# Altium footprint library eSurf_handle.PcbLib: 57 footprints (part 2 of 4)
Each footprint in its own frame and in the unit in brackets; x right, y up, seen from the top. Pads: shape width x height; smd on the part's side, far side on the other; paste and mask are expansions set on the pad; w line width, h text height; cw(c..) or ccw(c..) is an arc to the next point about the centre after c.
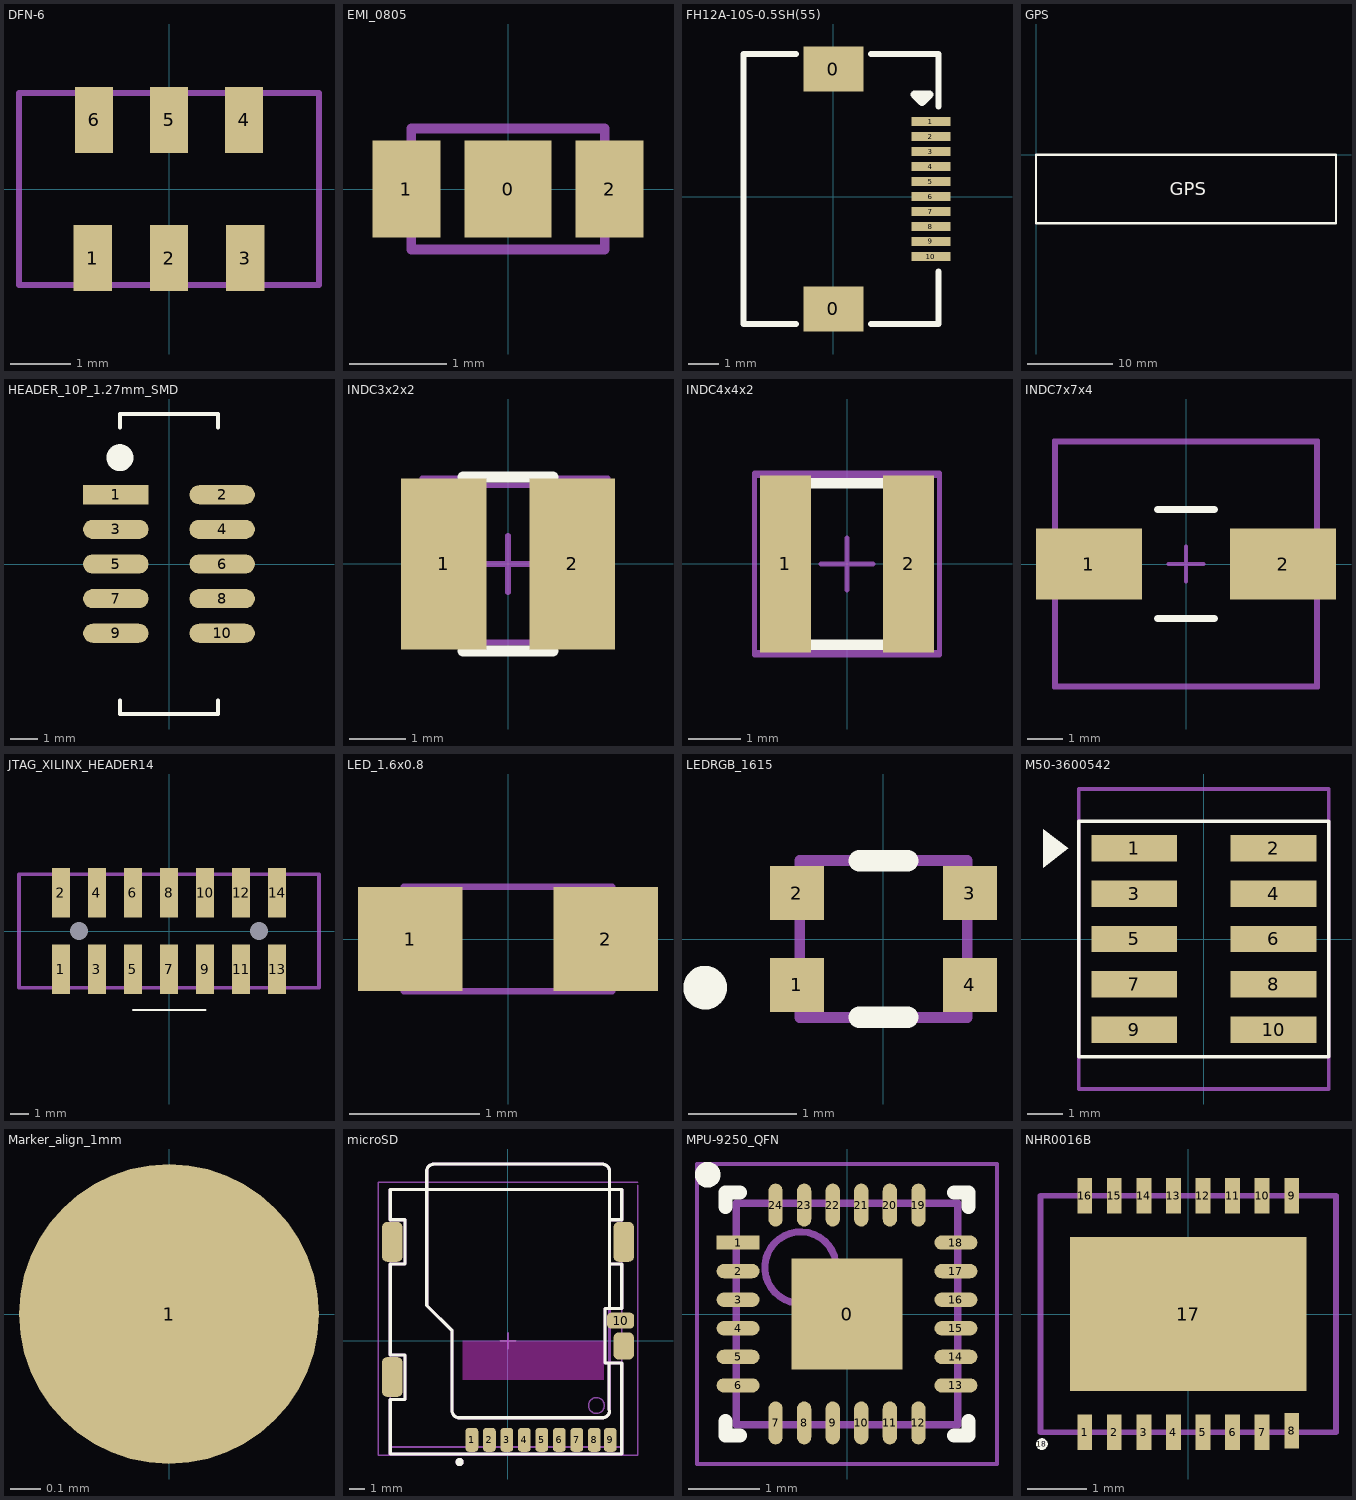
[diagram p1: the footprints below, top view; thin cyan lines are the x and y axes]

## DFN-6 [mm]
pads (6):
  rect 0.64x1.1 smd: 1(-1.27,-1.15) 2(0,-1.15) 3(1.27,-1.15) 4(1.25,1.15) 5(0,1.15) 6(-1.25,1.15)
Mechanical 15:
  lines w0.1: -2.5,-1.6 -2.5,1.6 2.5,1.6 2.5,-1.6 -2.5,-1.6
3D body: height 0.85, standoff 0, extent -2.499,-1.599 2.499,1.599

## EMI_0805 [mm]
height 0.85
pads (3):
  rect 0.9x1 smd: 0(0,0)
  rect 0.7x1 smd: 1(-1.05,0) 2(1.05,0)
Mechanical 15:
  lines w0.1: -1,-0.625 1,-0.625 1,0.625 -1,0.625 -1,-0.625
3D body: height 0.8, standoff 0, extent -1,-0.625 1,0.625

## FH12A-10S-0.5SH(55) [mm] "Connectors FFC & FPC 0.5MM 10 POS R/A TOP SMT GLD"
pads (12):
  rect 2x1.5 smd: 0(0,-3.75) 0(0,4.25)
  rect 1.3x0.3 smd: 1(3.25,2.5) 2(3.25,2) 3(3.25,1.5) 4(3.25,1) 5(3.25,0.5) 6(3.25,0) 7(3.25,-0.5) 8(3.25,-1) 9(3.25,-1.5) 10(3.25,-2)
Top Overlay:
  lines w0.2: -1.25,-4.25 -3,-4.25 -3,4.75 -1.25,4.75 ; 1.25,-4.25 3.5,-4.25 3.5,-2.5 ; 1.25,4.75 3.5,4.75 3.5,3
  lines w0.254: 2.7,3.4 3.2,3.4 ; 2.7,3.4 3.2,3.4 ; 2.7,3.4 2.95,3.15 3.2,3.4
3D body "FH12-10S-0.5SH.stp": height 2.09, standoff -0.01, extent -3,-4.3 3.4,4.8

## GPS [mm]
Top Overlay:
  lines w0.254: 0,-8 35,-8 35,0 0,0 0,-8
  text "GPS" at 15.6,-4.7 h1.52

## HEADER_10P_1.27mm_SMD [mm]
pads (10):
  rect 2.4x0.7 smd: 1(-1.95,2.54)
  oval 2.4x0.7 smd: 2(1.95,2.54) 3(-1.95,1.27) 4(1.95,1.27) 5(-1.95,0) 6(1.95,0) 7(-1.95,-1.27) 8(1.95,-1.27) 9(-1.95,-2.54) 10(1.95,-2.54)
Top Overlay:
  circle w0.7: c-1.8,3.9 r0.141
  lines w0.15: -1.8,-5 -1.8,-5.5 1.8,-5.5 1.8,-5 ; -1.8,5 -1.8,5.5 1.8,5.5 1.8,5
3D body "m50-3600542_asm.stp": height 4.68, standoff 0, extent -2.7,-3.175 2.8,3.175

## INDC3x2x2 [mm] "Chip Inductor, Body 4.5x3.2mm, IPC High Density"
height 2
pads (2):
  rect 1.52x3.05 smd: 1(-1.145,0) 2(1.145,0)
Top Overlay:
  lines w0.2: -0.8,-1.55 0.8,-1.55 ; -0.8,1.55 0.8,1.55
Mechanical 13:
  lines w0.1: -1.524,-1.397 -1.524,1.524 1.778,1.524 1.778,-1.397 -1.524,-1.397
Mechanical 15:
  lines w0.1: -0.5,0 0.5,0 ; 0,-0.5 0,0.5 ; -1.6,-1.4 -1.6,1.4 1.6,1.4 1.6,-1.4 -1.6,-1.4
3D body: height 2, standoff 0, extent -1.6,-1.4 1.6,1.4

## INDC4x4x2 [mm] "Chip Inductor, Body 4.5x3.2mm, IPC High Density"
height 2
pads (2):
  rect 0.98x3.4 smd: 1(-1.185,0) 2(1.185,0)
Top Overlay:
  lines w0.2: -0.8,-1.55 0.8,-1.55 ; -0.8,1.55 0.8,1.55
Mechanical 13:
  lines w0.1: -1.778,-1.7 -1.778,1.7 1.778,1.7 1.778,-1.7 -1.778,-1.7
Mechanical 15:
  lines w0.1: -0.5,0 0.5,0 ; 0,-0.5 0,0.5 ; -1.778,-1.75 -1.778,1.75 1.778,1.75 1.778,-1.75 -1.778,-1.75
3D body: height 0.55, standoff 0, extent -1.778,-1.7 1.778,1.7

## INDC7x7x4 [mm] "Chip Inductor, Body 4.5x3.2mm, IPC High Density"
height 4
pads (2):
  rect 3x2 smd: 1(-2.75,0) 2(2.75,0)
Top Overlay:
  lines w0.2: -0.8,-1.55 0.8,-1.55 ; -0.8,1.55 0.8,1.55
Mechanical 13:
  lines w0.1: -3.683,-3.429 3.683,-3.429 3.683,3.429 -3.683,3.429 -3.683,-3.429
Mechanical 15:
  lines w0.1: -0.5,0 0.5,0 ; 0,-0.5 0,0.5 ; -3.75,-3.5 3.75,-3.5 3.75,3.5 -3.75,3.5 -3.75,-3.5
3D body: height 0.55, standoff 0, extent -3.75,-3.5 3.75,3.5

## JTAG_XILINX_HEADER14 [mm]
pads (16):
  rect 1x2.75 smd: 1(-6,-2.125) 2(-6,2.125) 3(-4,-2.125) 4(-4,2.125) 5(-2,-2.125) 6(-2,2.125) 7(0,-2.125) 8(0,2.125) 9(2,-2.125) 10(2,2.125) 11(4,-2.125) 12(4,2.125) 13(6,-2.125) 14(6,2.125)
  round 0 hole 1: H1(-5,0) H2(5,0)
Top Overlay:
  lines w0.1: -2,-4.375 2.025,-4.375
Mechanical 15:
  lines w0.2: -8.325,-3.15 8.325,-3.15 8.325,3.15 -8.325,3.15 -8.325,-3.15
3D body: height 6.4, standoff 0, extent -8.325,-3.15 8.325,3.15

## LED_1.6x0.8 [mm]
pads (2):
  rect 0.8x0.8 smd: 1(-0.75,0) 2(0.75,0)
Mechanical 15:
  lines w0.05: -0.8,-0.4 0.8,-0.4 0.8,0.4 -0.8,0.4 -0.8,-0.4
3D body: height 0.6, standoff 0, extent -0.8,-0.4 0.8,0.4

## LEDRGB_1615 [mm] "SOIC, 4-Leads, Body 1.6x1.7mm (max), Pitch 1.27mm, IPC Medium Density"
height 0.6
pads (4):
  rect 0.5x0.5 smd mask+0.01: 1(-0.8,-0.425) 2(-0.8,0.425) 3(0.8,0.425) 4(0.8,-0.425)
Top Overlay:
  circle w0.254: c-1.65,-0.45 r0.075
  lines w0.2: -0.225,-0.725 0.225,-0.725 ; -0.225,0.725 0.225,0.725
Mechanical 13:
  lines w0.1: -0.775,-0.725 -0.775,0.725 0.775,0.725 0.775,-0.725 -0.775,-0.725
3D body: height 0.5, standoff 0.17, extent -0.825,-0.75 0.825,0.75

## M50-3600542 [mm]
pads (10):
  rect 2.4x0.74 smd: 1(-1.95,2.54) 2(1.95,2.54) 3(-1.95,1.27) 4(1.95,1.27) 5(-1.95,0) 6(1.95,0) 7(-1.95,-1.27) 8(1.95,-1.27) 9(-1.95,-2.54) 10(1.95,-2.54)
Top Overlay:
  region: -4.5,3.08 -4.5,2 -3.8,2.54
  lines w0.1: -3.5,-3.3 3.5,-3.3 3.5,3.3 -3.5,3.3 -3.5,-3.3
Mechanical 13:
  lines w0.1: -3.5,-4.2 -3.5,4.2 3.5,4.2 3.5,-4.2 -3.5,-4.2
3D body: height 1.7, standoff 0.68, extent -1.7,-3.2 1.7,3.2
3D body: height 4.7, standoff 0, extent -0.85,2.325 -0.45,2.725
3D body: height 4.7, standoff 0, extent 0.45,2.325 0.85,2.725
3D body: height 0.4, standoff 0, extent -2.75,2.325 -0.85,2.725
3D body: height 0.4, standoff 0, extent 0.85,2.325 2.75,2.725
3D body: height 0.4, standoff 0, extent 0.85,1.075 2.75,1.475
3D body: height 0.4, standoff 0, extent -2.75,1.075 -0.85,1.475
3D body: height 4.7, standoff 0, extent 0.45,1.075 0.85,1.475
3D body: height 4.7, standoff 0, extent -0.85,1.075 -0.45,1.475
3D body: height 0.4, standoff 0, extent 0.85,-0.175 2.75,0.225
3D body: height 0.4, standoff 0, extent -2.75,-0.175 -0.85,0.225
3D body: height 4.7, standoff 0, extent 0.45,-0.175 0.85,0.225
3D body: height 4.7, standoff 0, extent -0.85,-0.175 -0.45,0.225
3D body: height 0.4, standoff 0, extent 0.85,-1.475 2.75,-1.075
3D body: height 0.4, standoff 0, extent -2.75,-1.475 -0.85,-1.075
3D body: height 4.7, standoff 0, extent 0.45,-1.475 0.85,-1.075
3D body: height 4.7, standoff 0, extent -0.85,-1.475 -0.45,-1.075
3D body: height 0.4, standoff 0, extent 0.85,-2.75 2.75,-2.35
3D body: height 0.4, standoff 0, extent -2.75,-2.75 -0.85,-2.35
3D body: height 4.7, standoff 0, extent 0.45,-2.75 0.85,-2.35
3D body: height 4.7, standoff 0, extent -0.85,-2.75 -0.45,-2.35

## Marker_align_1mm [mm]
pads (1):
  round 1 smd paste-0.5 mask+0.5: 1(0,0)

## microSD [mm] "Micro Secure Digital Card receptacle push-pull"
height 1.6
pads (14):
  rrect50% 0.8x1.5 smd mask+0.05: 1(-2.27,-6.225) 2(-1.17,-6.225) 3(-0.07,-6.225) 4(1.03,-6.225) 5(2.13,-6.225) 6(3.23,-6.225) 7(4.33,-6.225) 8(5.43,-6.225) 9(6.43,-6.225)
  rrect50% 1.7x1 smd mask+0.05: 10(7.08,1.275)
  rrect50% 1.3x2.5 smd: ""(-7.28,-2.275) ""(-7.28,6.225) ""(7.28,6.225)
  rrect50% 1.3x1.7 smd mask+0.05: ""(7.28,-0.325)
Top Layer keep-out:
  rectangle: -2.85,-2.475 6.05,0.025
Top Overlay:
  circle w0.25: c-3.046,-7.62 r0.125
  lines w0.2: -4.661,11.116 ccw(c-4.661,10.666) -5.111,10.666 -5.111,2.284 -5.111,2.226 -3.518,0.633 -3.518,-4.389 ccw(c-3.068,-4.389) -3.068,-4.839 5.938,-4.839 ccw(c5.938,-4.389) 6.388,-4.389 ; -4.661,11.125 5.938,11.125 ; 5.938,11.116 cw(c5.938,10.666) 6.388,10.666 6.388,2.032 ; 6.35,-4.351 6.35,-1.397 ; -7.41,-7.112 -7.41,-3.683 -6.477,-3.683 -6.477,-0.889 -7.41,-0.889 -7.41,4.826 -6.477,4.826 -6.477,7.62 -7.41,7.62 -7.41,9.525 -2.711,9.525 7.15,9.525 7.15,7.62 6.388,7.62 6.388,4.826 7.15,4.826 7.15,2.032 6.096,2.032 6.096,-1.397 7.15,-1.397 7.15,-7.112 -4.87,-7.112 -7.41,-7.112
Mechanical 2:
  circle w0.25: c-3.046,-7.62 r0.125
  lines w0.2: -4.661,11.116 ccw(c-4.661,10.666) -5.111,10.666 -5.111,2.284 -5.111,2.226 -3.518,0.633 -3.518,-4.389 ccw(c-3.068,-4.389) -3.068,-4.839 5.938,-4.839 ccw(c5.938,-4.389) 6.388,-4.389 ; -4.661,11.125 5.938,11.125 ; 5.938,11.116 cw(c5.938,10.666) 6.388,10.666 6.388,2.032 ; 6.35,-4.351 6.35,-1.397 ; -7.41,-7.112 -4.87,-7.112 7.15,-7.112 7.15,-1.397 6.096,-1.397 6.096,2.032 7.15,2.032 7.15,4.826 6.388,4.826 6.388,7.62 7.15,7.62 7.15,9.525 -2.711,9.525 -7.41,9.525 -7.41,7.62 -6.477,7.62 -6.477,4.826 -7.41,4.826 -7.41,-0.889 -6.477,-0.889 -6.477,-3.683 -7.41,-3.683 -7.41,-7.112
  text ".Designator" at -1.778,3.81 h0.51
  text ".Comment" at -1.778,3.048 h0.51
Mechanical 13:
  circle w0.1: c5.565,-4.066 r0.5
  lines w0.1: -7.41,-6.675 -7.41,9.525 7.15,9.525 7.15,-6.675 -7.41,-6.675
  lines w0.2: -5.111,2.226 -3.518,0.633 -3.518,-4.389 ccw(c-3.068,-4.389) -3.068,-4.839 5.938,-4.839 ccw(c5.938,-4.389) 6.388,-4.389 ; -5.111,2.284 -5.111,10.666 cw(c-4.661,10.666) -4.661,11.116 ; -4.661,11.125 5.938,11.125 ; 5.938,11.116 cw(c5.938,10.666) 6.388,10.666 6.388,-4.318
Mechanical 15:
  lines w0.1: -0.5,0 0.5,0 ; 0,-0.5 0,0.5 ; 8.171,9.777 8.171,-7.188 -8.159,-7.188 -8.159,9.978 8.171,9.978
3D body: height 1.4, standoff 0.4, extent -5.111,-4.839 6.388,11.125
3D body: height 1.6, standoff 0, extent -7.41,-6.675 7.15,9.525

## MPU-9250_QFN [mm] "QFN, 24-Leads, Body 3.00x3.00mm, Pitch 0.40mm, Thermal Pad 1.70x1.70mm, IPC Medium Density"
height 1.05
pads (25):
  rect 1.55x1.55 smd mask+0.05: 0(0,0)
  rect 0.6x0.2 smd mask+0.05: 1(-1.525,1)
  oval 0.6x0.2 smd mask+0.05: 2(-1.525,0.6) 3(-1.525,0.2) 4(-1.525,-0.2) 5(-1.525,-0.6) 6(-1.525,-1) 13(1.525,-1) 14(1.525,-0.6) 15(1.525,-0.2) 16(1.525,0.2) 17(1.525,0.6) 18(1.525,1)
  oval 0.2x0.6 smd mask+0.05: 7(-1,-1.525) 8(-0.6,-1.525) 9(-0.2,-1.525) 10(0.2,-1.525) 11(0.6,-1.525) 12(1,-1.525) 19(1,1.525) 20(0.6,1.525) 21(0.2,1.525) 22(-0.2,1.525) 23(-0.6,1.525) 24(-1,1.525)
Top Overlay:
  circle w0.2: c-1.95,1.95 r0.079
  lines w0.2: -1.7,-1.5 -1.7,-1.7 -1.5,-1.7 ; -1.7,1.5 -1.7,1.7 -1.5,1.7 ; 1.5,-1.7 1.7,-1.7 1.7,-1.5 ; 1.5,1.7 1.7,1.7 1.7,1.5
Mechanical 13:
  circle w0.1: c-0.65,0.65 r0.5
  lines w0.1: -1.55,-1.55 -1.55,1.55 1.55,1.55 1.55,-1.55 -1.55,-1.55
Mechanical 15:
  lines w0.05: -2.1,-2.1 -2.1,2.1 2.1,2.1 2.1,-2.1 -2.1,-2.1
  lines w0.1: -0.5,0 0.5,0 ; 0,-0.5 0,0.5
3D body: height 1.05, standoff 0.05, extent -1.55,-1.55 1.55,1.55

## NHR0016B [mm] "LDC1000 Inductance-to-digital converter"
pads (18):
  rect 0.25x0.6 smd mask+0.05: 1(-1.75,-2) 2(-1.25,-2) 3(-0.75,-2) 4(-0.25,-2) 5(0.25,-2) 6(0.75,-2) 7(1.25,-2) 8(1.75,-1.975) 9(1.75,2) 10(1.25,2) 11(0.75,2) 12(0.25,2) 13(-0.25,2) 14(-0.75,2) 15(-1.25,2) 16(-1.75,2)
  rect 4x2.6 smd mask+0.05: 17(0,0)
  round 0.2 on Top Overlay mask+0.05: 18(-2.475,-2.2)
Mechanical 15:
  lines w0.1: -2.5,-2 2.5,-2 2.5,2 -2.5,2 -2.5,-2
3D body: height 0.8, standoff 0, extent -2.5,-2 2.5,2